# EAGLE library part AYZ0202AGRLC (library BitLab)
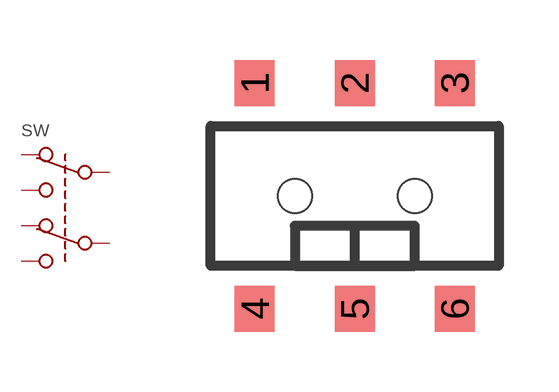
[diagram p0: symbol with the pads of AYZ0202AGRLC; footprint AYZ0202AGRLC]

Designator prefix SW

## AYZ0202AGRLC  [AYZ0202AGRLC]
1  NC_A
2  COM_A
3  NO_A
4  NC_B
5  COM_B
6  NO_B

## Footprint AYZ0202AGRLC (pad centres in mm)
smd 1 x 1.15: 1 -2.5,2.825; 2 0,2.825; 3 2.5,2.825; 4 -2.5,-2.825; 5 0,-2.825; 6 2.5,-2.825
hole 0.85 at -1.5,0
hole 0.85 at 1.5,0